# Altium footprint library myPcbLib1.PcbLib: 133 footprints (part 8 of 9)
Each footprint in its own frame and in the unit in brackets; x right, y up, seen from the top. Pads: shape width x height; smd on the part's side, far side on the other; paste and mask are expansions set on the pad; w line width, h text height; cw(c..) or ccw(c..) is an arc to the next point about the centre after c.
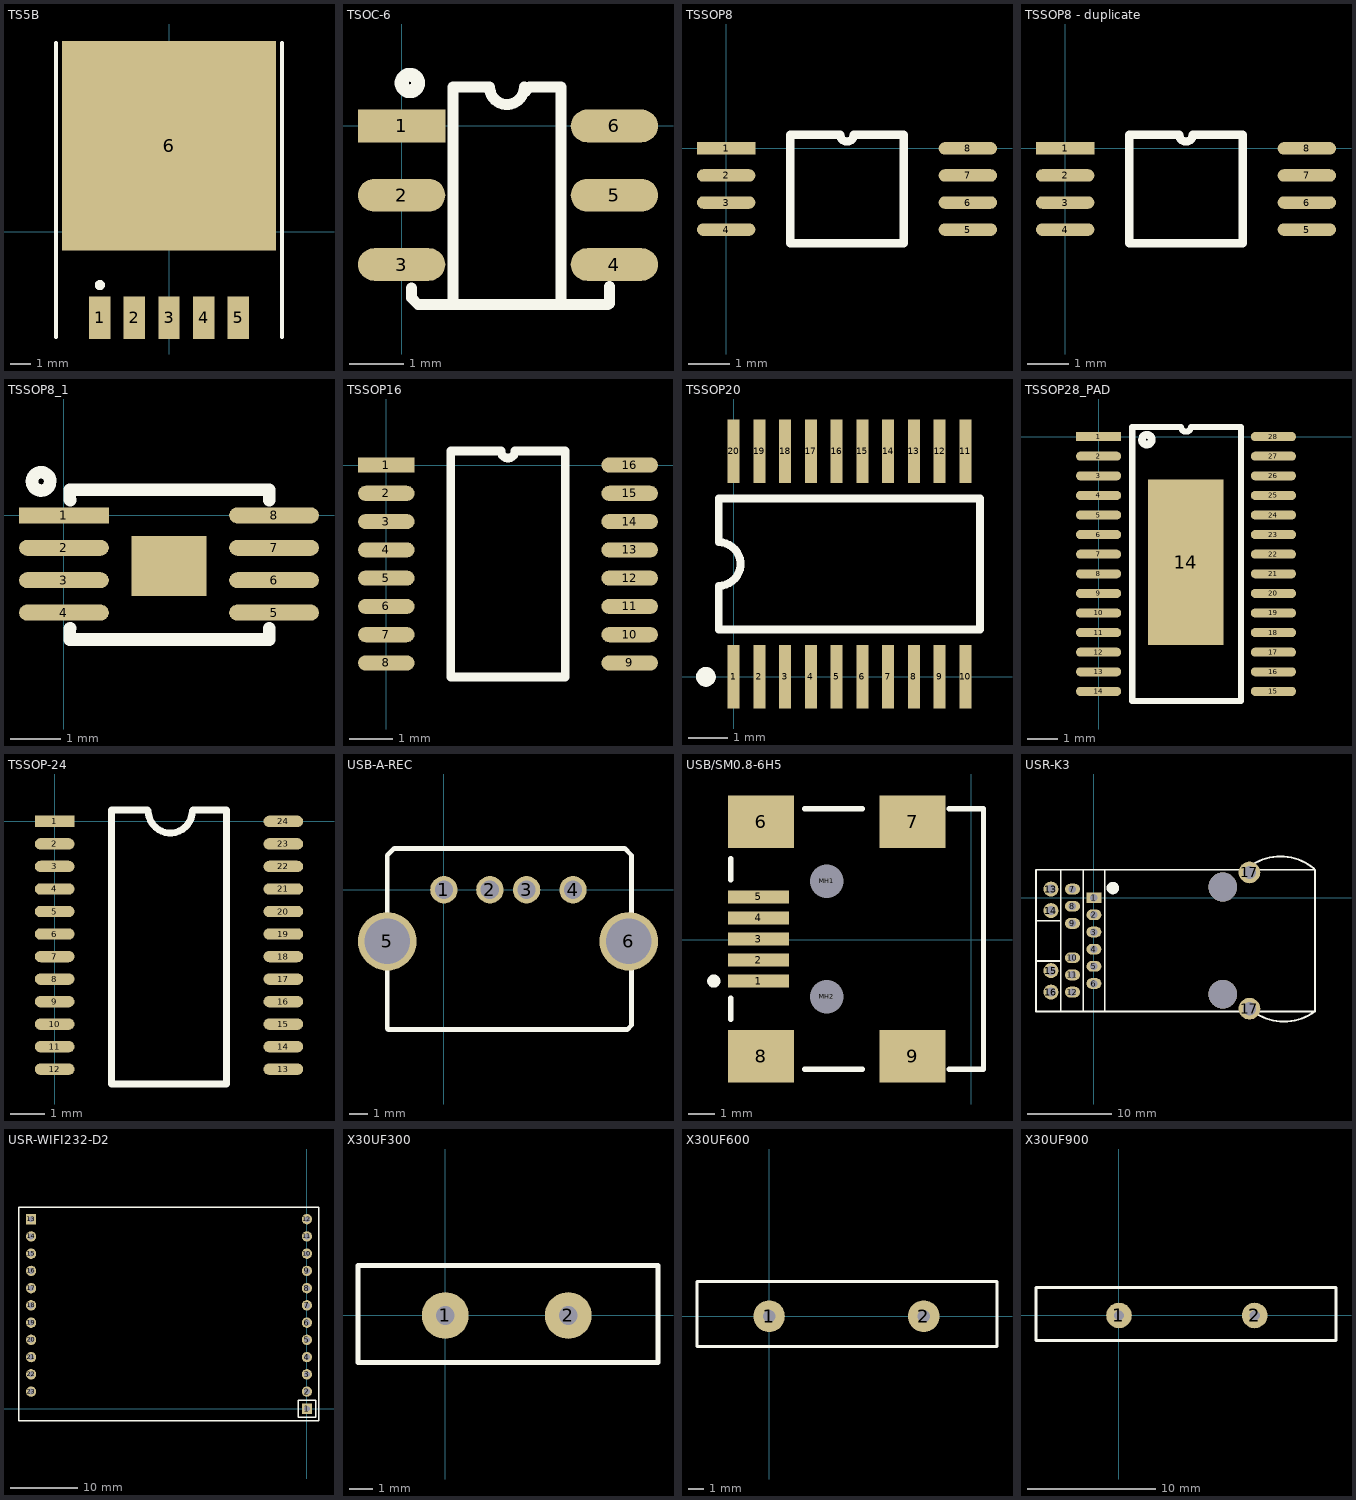
[diagram p7: the footprints below, top view; thin cyan lines are the x and y axes]

## TS5B [mm] "D2-PAK; 5 Leads; Body 14.4 (inc. leads) x 10.4 mm (LxW max)"
pads (6):
  rect 1.05x2.1 smd: 1(-3.4,-4.225) 2(-1.7,-4.225) 3(0,-4.225) 4(1.7,-4.225) 5(3.4,-4.225)
  rect 10.5x10.3 smd: 6(0,4.225)
Top Overlay:
  circle w0.25: c-3.4,-2.625 r0.125
  lines w0.2: -5.55,-5.175 -5.55,9.275 ; 5.55,-5.175 5.55,9.275

## TSOC-6 [mm]
pads (6):
  rect 1.6x0.6 smd: 1(0,0)
  oval 1.6x0.6 smd: 2(0,-1.27) 3(0,-2.54) 4(3.9,-2.54) 5(3.9,-1.27) 6(3.9,0)
Top Overlay:
  circle w0.254: c0.152,0.787 r0.152
  lines w0.2: 0.178,-2.972 0.178,-3.15 0.305,-3.277 0.94,-3.277 ; 1.613,0.711 ccw(c1.93,0.711) 2.248,0.711 ; 1.632,0.635 1.556,0.711 0.94,0.711 0.94,-3.277 ; 2.267,0.635 2.344,0.711 2.921,0.711 2.921,-3.277 ; 3.81,-2.946 3.81,-3.099 3.81,-3.251 3.785,-3.277 2.921,-3.277 ; 0.94,-3.277 2.921,-3.277

## TSSOP8 [mm]
pads (8):
  rect 1.4x0.3 smd: 1(0,0)
  oval 1.4x0.3 smd: 2(0,-0.65) 3(0,-1.3) 4(0,-1.95) 5(5.8,-1.95) 6(5.8,-1.3) 7(5.8,-0.65) 8(5.8,0)
Top Overlay:
  lines w0.2: 1.535,-2.275 1.535,0.325 2.738,0.325 ccw(c2.9,0.325) 3.062,0.325 4.265,0.325 4.265,-2.275 1.535,-2.275

## TSSOP8 - duplicate [mm]
pads (8):
  rect 1.4x0.3 smd: 1(0,0)
  oval 1.4x0.3 smd: 2(0,-0.65) 3(0,-1.3) 4(0,-1.95) 5(5.8,-1.95) 6(5.8,-1.3) 7(5.8,-0.65) 8(5.8,0)
Top Overlay:
  lines w0.2: 1.535,-2.275 1.535,0.325 2.738,0.325 ccw(c2.9,0.325) 3.062,0.325 4.265,0.325 4.265,-2.275 1.535,-2.275

## TSSOP8_1 [mm]
pads (9):
  rect 1.8x0.32 smd: 1(0,0)
  oval 1.8x0.32 smd: 2(0,-0.65) 3(0,-1.3) 4(0,-1.95) 5(4.211,-1.95) 6(4.211,-1.3) 7(4.211,-0.65) 8(4.211,0)
  rect 1.5x1.2 smd: ""(2.108,-1.016)
Top Overlay:
  lines w0.25: -0.279,0.635 cw(c-0.457,0.679) -0.274,0.679
  lines w0.254: 0.127,-2.261 ccw(c0.158,-2.292) 0.114,-2.292 0.114,-2.489 4.115,-2.489 4.115,-2.261 ; 0.127,0.305 cw(c0.158,0.336) 0.114,0.336 0.114,0.51 4.115,0.51 4.115,0.305

## TSSOP16 [mm]
pads (16):
  rect 1.3x0.35 smd: 1(0,0)
  oval 1.3x0.35 smd: 2(0,-0.65) 3(0,-1.3) 4(0,-1.95) 5(0,-2.6) 6(0,-3.25) 7(0,-3.9) 8(0,-4.55) 9(5.6,-4.55) 10(5.6,-3.9) 11(5.6,-3.25) 12(5.6,-2.6) 13(5.6,-1.95) 14(5.6,-1.3) 15(5.6,-0.65) 16(5.6,0)
Top Overlay:
  lines w0.2: 1.485,-4.875 1.485,0.325 2.638,0.325 ccw(c2.8,0.325) 2.962,0.325 4.115,0.325 4.115,-4.875 1.485,-4.875

## TSSOP20 [mm]
pads (20):
  rect 0.3x1.6 smd: 1(0,0) 2(0.65,0) 3(1.3,0) 4(1.95,0) 5(2.6,0) 6(3.25,0) 7(3.9,0) 8(4.55,0) 9(5.2,0) 10(5.85,0) 11(5.85,5.7) 12(5.2,5.7) 13(4.55,5.7) 14(3.9,5.7) 15(3.25,5.7) 16(2.6,5.7) 17(1.95,5.7) 18(1.3,5.7) 19(0.65,5.7) 20(0,5.7)
Top Overlay:
  circle w0.25: c-0.7,0 r0.125
  lines w0.2: -0.375,1.2 -0.375,2.3 ccw(c-0.375,2.85) -0.375,3.4 -0.375,4.5 6.225,4.5 6.225,1.2 -0.375,1.2

## TSSOP28_PAD [mm]
pads (29):
  rect 1.5x0.3 smd: 1(0,0)
  oval 1.5x0.3 smd: 2(0,-0.65) 3(0,-1.3) 4(0,-1.95) 5(0,-2.6) 6(0,-3.25) 7(0,-3.9) 8(0,-4.55) 9(0,-5.2) 10(0,-5.85) 11(0,-6.5) 12(0,-7.15) 13(0,-7.8) 14(0,-8.45) 15(5.8,-8.45) 16(5.8,-7.8) 17(5.8,-7.15) 18(5.8,-6.5) 19(5.8,-5.85) 20(5.8,-5.2) 21(5.8,-4.55) 22(5.8,-3.9) 23(5.8,-3.25) 24(5.8,-2.6) 25(5.8,-1.95) 26(5.8,-1.3) 27(5.8,-0.65) 28(5.8,0)
  rect 2.5x5.5 smd: 14(2.896,-4.166)
Top Overlay:
  lines w0.2: 1.118,-8.775 4.724,-8.775 4.724,0.325 3.062,0.325 cw(c2.9,0.325) 2.738,0.325 1.118,0.325 1.118,-8.775
  lines w0.254: 1.438,-0.098 ccw(c1.6,-0.102) 1.46,-0.019

## TSSOP-24 [mm]
pads (24):
  rect 1.143x0.33 smd: 1(0,0)
  oval 1.143x0.33 smd: 2(0,-0.65) 3(0,-1.3) 4(0,-1.95) 5(0,-2.6) 6(0,-3.25) 7(0,-3.9) 8(0,-4.55) 9(0,-5.2) 10(0,-5.85) 11(0,-6.5) 12(0,-7.15) 13(6.6,-7.15) 14(6.6,-6.5) 15(6.6,-5.85) 16(6.6,-5.2) 17(6.6,-4.55) 18(6.6,-3.9) 19(6.6,-3.25) 20(6.6,-2.6) 21(6.6,-1.95) 22(6.6,-1.3) 23(6.6,-0.65) 24(6.6,0)
Top Overlay:
  lines w0.2: 2.676,0.325 1.635,0.325 1.635,-7.574 4.965,-7.574 4.965,0.325 3.997,0.325 ; 2.702,0.3 ccw(c3.337,0.3) 3.972,0.3

## USB-A-REC [mm] "USB-A receptacle"
pads (6):
  round 1.5 hole 1: 1(0,0) 2(2.515,0) 3(4.521,0) 4(7.061,0)
  round 3.2 hole 2.5: 5(-3.099,-2.819) 6(10.109,-2.819)
Top Overlay:
  lines w0.254: -3.099,-7.595 -3.099,-2.819 -3.099,1.88 -2.718,2.261 9.881,2.261 10.262,1.88 10.262,-7.417 10.033,-7.645 -3.048,-7.645 -3.099,-7.595

## USB/SM0.8-6H5 [mm]
pads (11):
  rect 2.3x0.5 smd: 1(-8.079,-1.575) 2(-8.079,-0.775) 3(-8.079,0.025) 4(-8.079,0.825) 5(-8.079,1.625)
  rect 2.5x2 smd: 6(-7.979,4.475) 7(-2.225,4.475) 8(-7.979,-4.425) 9(-2.225,-4.425)
  round 0.6 hole 1.27 unplated: MH1(-5.479,2.225) MH2(-5.479,-2.175)
Top Overlay:
  circle w0.25: c-9.779,-1.575 r0.125
  lines w0.2: -9.129,-3.025 -9.129,-2.225 ; -9.129,2.275 -9.129,3.075 ; -6.329,-4.925 -4.129,-4.925 ; -6.329,4.975 -4.129,4.975 ; -0.829,-4.925 0.471,-4.925 0.471,4.975 -0.829,4.975

## USR-K3 [mil]
pads (18):
  rect 70x50 hole 35: 1(0,0)
  oval 70x50 hole 35: 2(0,-80) 3(0,-160) 4(0,-240) 5(0,-320) 6(0,-400) 7(-100,40) 8(-100,-40) 9(-100,-120) 10(-100,-280) 11(-100,-360) 12(-100,-440)
  round 70 hole 43: 13(-200,40) 14(-200,-60) 15(-200,-340) 16(-200,-440)
  round 101.18 hole 61.81: 17(725,-517.5) 17(725,117.5)
via 600,50 diameter 133.86 hole 133.86
via 600,-450 diameter 133.86 hole 133.86
Top Overlay:
  circle w30: c88.46,45 r14.14
  lines w8: -269.8,130.71 -269.69,-530.71 1030.32,-530.71 1030.2,127.48 ; -269.69,130.71 1030.32,130.71 ; -265,-294.96 -160,-294.96 ; -264.61,-107.52 -154.8,-107.52 ; -155,-530.71 -155,130.71 ; -50,-530.71 -50,130.71 ; 50.2,-527.52 50.2,127.48
  lines w10: 726.59,145.57 cw(c869.47,-50.22) 1026.03,134.81 ; 729.36,-519.85 ccw(c885.92,-334.82) 1028.8,-530.61

## USR-WIFI232-D2 [mil]
pads (23):
  rect 60x60 hole 33.47: 1(0,0) 13(-1600,1100)
  round 60 hole 33.47: 2(0,100) 3(0,200) 4(0,300) 5(0,400) 6(0,500) 7(0,600) 8(0,700) 9(0,800) 10(0,900) 11(0,1000) 12(0,1100) 14(-1600,1000) 15(-1600,900) 16(-1600,800) 17(-1600,700) 18(-1600,600) 19(-1600,500) 20(-1600,400) 21(-1600,300) 22(-1600,200) 23(-1600,100)
Top Overlay:
  lines w8: -1670,-70 -1670,1170 70,1170 70,-70 -1670,-70 ; -50,-50 50,-50 50,50 -50,50 -50,-50

## X30UF300 [mm]
pads (2):
  round 2 hole 0.8: 1(0,0) 2(5.258,0)
Top Overlay:
  lines w0.2: -3.734,-2.007 -3.734,2.134 -1.422,2.134 9.093,2.134 9.093,-2.007 -3.734,-2.007

## X30UF600 [mm]
pads (2):
  round 2 hole 0.8: 1(0,0) 2(9.804,0)
Top Overlay:
  lines w0.2: -4.572,-1.93 14.453,-1.93 14.453,2.21 -1.397,2.21 -4.572,2.21 -4.572,-1.93

## X30UF900 [mm]
pads (2):
  round 2 hole 0.8: 1(0,0) 2(10.592,0)
Top Overlay:
  lines w0.2: -6.477,-1.956 16.942,-1.956 16.942,2.184 -1.397,2.184 -6.477,2.184 -6.477,-1.956